# Altium schematic symbol library OPA1641AID.SchLib: 1 symbol
Pins are listed as number, name and electrical type; pins without a type are passive.

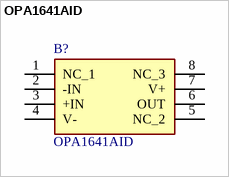
[diagram p0: symbol OPA1641AID]

## OPA1641AID
designator B?
Single Sound-Plus High-Performance, JFET-Input Audio OpAmps; Manufacturer_Name: Texas Instruments; Geometry.Height: 1.75mm; Manufacturer_Part_Number: OPA1641AID; Mouser Part Number: 595-OPA1641AID; Mouser Price/Stock: https://www.mouser.co.uk/ProductDetail/Texas-Instruments/OPA1641AID?qs=%2Fqzd9s%252BcLd4V%252BdtTTJDooA%3D%3D; Arrow Part Number: OPA1641AID; Arrow Price/Stock: https://www.arrow.com/en/products/opa1641aid/texas-instruments.html?utm_currency=USD&region=europe; Datasheet Link: http://www.ti.com/lit/gpn/opa1641
footprint SOIC127P600X175-8N
pins: 1 NC_1, 2 -IN, 3 +IN, 4 V-, 5 NC_2, 6 OUT, 7 V+, 8 NC_3